# Altium footprint library WR-NPC2.PcbLib: 28 footprints (part 2 of 2)
Each footprint in its own frame and in the unit in brackets; x right, y up, seen from the top. Pads: shape width x height; smd on the part's side, far side on the other; paste and mask are expansions set on the pad; w line width, h text height; cw(c..) or ccw(c..) is an arc to the next point about the centre after c.
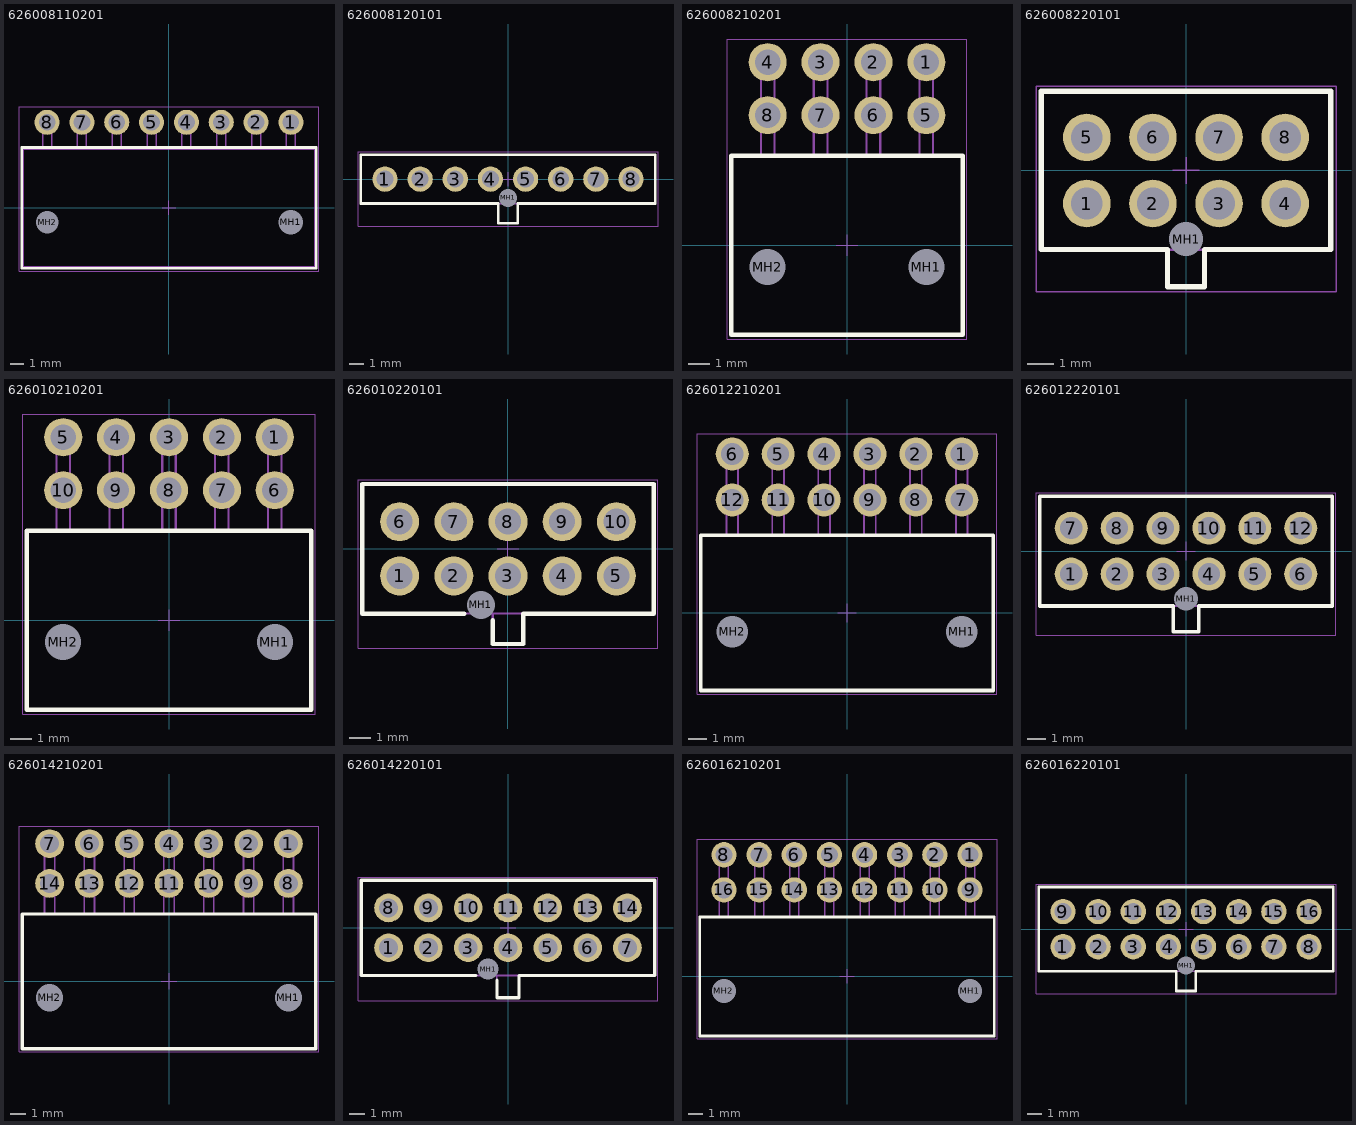
[diagram p1: the footprints below, top view; thin cyan lines are the x and y axes]

## 626008110201 [mm] "Single Row Male Header Right Angled, GW, THT, 08p"
height 3.78
pads (10):
  round 1.8 hole 1.2: 1(8.75,6.15) 2(6.25,6.15) 3(3.75,6.15) 4(1.25,6.15) 5(-1.25,6.15) 6(-3.75,6.15) 7(-6.25,6.15) 8(-8.75,6.15)
  round 1.55 hole 1.75 unplated: MH1(8.75,-1.03)
  round 1.4 hole 1.6 unplated: MH2(-8.75,-1.03)
Top Overlay:
  lines w0.2: -10.57,-4.33 -10.57,4.33 10.57,4.33 10.57,-4.33 -10.57,-4.33
Top Component Outline:
  lines w0.1: -9.07,4.23 -9.07,6.47 -8.43,6.47 -8.43,4.23 ; -6.57,4.23 -6.57,6.47 -5.93,6.47 -5.93,4.23 ; -4.07,4.23 -4.07,6.47 -3.43,6.47 -3.43,4.23 ; -1.57,4.23 -1.57,6.47 -0.93,6.47 -0.93,4.23 ; 0.93,4.23 0.93,6.47 1.57,6.47 1.57,4.23 ; 3.43,4.23 3.43,6.47 4.07,6.47 4.07,4.23 ; 5.93,4.23 5.93,6.47 6.57,6.47 6.57,4.23 ; 8.43,4.23 8.43,6.47 9.07,6.47 9.07,4.23 ; -10.47,-4.23 10.47,-4.23 10.47,4.23 -10.47,4.23 -10.47,-4.23
Top Courtyard:
  lines w0.05: -10.77,-4.53 10.77,-4.53 10.77,7.25 -10.77,7.25 -10.77,-4.53
Top Component Center:
  lines w0.05: -0.5,0 0.5,0 ; 0,-0.5 0,0.5
Top Designator (Mech19):
  text ".Designator" at -7.498,-0.5 h1.5
3D body "626008110201.stp": height 5.24, standoff -3.14, extent -10.47,-4.23 10.47,6.47

## 626008120101 [mm] "Single Row Male Header Vertical, GW, THT, 08p"
height 9.06
pads (9):
  round 1.8 hole 1.2: 1(-8.75,0) 2(-6.25,0) 3(-3.75,0) 4(-1.25,0) 5(1.25,0) 6(3.75,0) 7(6.25,0) 8(8.75,0)
  round 1.1 hole 1.3 unplated: MH1(0,-1.34)
Top Overlay:
  lines w0.2: -10.47,-1.74 -0.7,-1.74 -0.7,-3.14 0.7,-3.14 0.7,-1.74 10.47,-1.74 10.47,1.74 -10.47,1.74 -10.47,-1.74
Top Component Outline:
  lines w0.1: -0.7,-1.74 -0.7,-3.14 0.7,-3.14 0.7,-1.74 ; -10.47,-1.74 10.47,-1.74 10.47,1.74 -10.47,1.74 -10.47,-1.74
Top Courtyard:
  lines w0.05: -10.67,-3.34 -10.67,1.94 10.67,1.94 10.67,-3.34 -10.67,-3.34
Top Component Center:
  lines w0.05: -0.5,0 0.5,0 ; 0,-0.5 0,0.5
Top Designator (Mech19):
  text ".Designator" at -7.498,-0.5 h1.5
3D body "626008120101.stp": height 9.1, standoff -3.16, extent -10.47,-3.14 10.47,1.74

## 626008210201 [mm] "Dual Row Male Header Right Angled, GW, THT, 08p"
height 6.28
pads (10):
  round 1.8 hole 1.2: 1(3.75,8.65) 2(1.25,8.65) 3(-1.25,8.65) 4(-3.75,8.65) 5(3.75,6.15) 6(1.25,6.15) 7(-1.25,6.15) 8(-3.75,6.15)
  round 1.5 hole 1.7 unplated: MH1(3.75,-1.03) MH2(-3.75,-1.03)
Top Overlay:
  lines w0.2: -5.47,-4.23 5.47,-4.23 5.47,4.23 -5.47,4.23 -5.47,-4.23
Top Component Outline:
  lines w0.1: -4.07,4.23 -4.07,8.97 -3.43,8.97 -3.43,4.23 ; -4.07,6.47 -3.43,6.47 ; -1.57,4.23 -1.57,8.97 -0.93,8.97 -0.93,4.23 ; -1.57,6.47 -0.93,6.47 ; 0.93,4.23 0.93,8.97 1.57,8.97 1.57,4.23 ; 0.93,6.47 1.57,6.47 ; 3.43,4.23 3.43,8.97 4.07,8.97 4.07,4.23 ; 3.43,6.47 4.07,6.47 ; -5.47,-4.23 -5.47,4.23 5.47,4.23 5.47,-4.23 -5.47,-4.23
Top Courtyard:
  lines w0.05: -5.67,-4.43 -5.67,9.75 5.67,9.75 5.67,-4.43 -5.67,-4.43
Top Component Center:
  lines w0.05: -0.5,0 0.5,0 ; 0,-0.5 0,0.5
Top Designator (Mech19):
  text ".Designator" at -7.498,-0.5 h1.5
3D body "626008210201.stp": height 7.79, standoff -3.09, extent -5.47,-4.23 5.47,8.98

## 626008220101 [mm] "Dual Row Male Header Vertical, GW, THT, 08p"
height 9.06
pads (9):
  round 1.8 hole 1.2: 1(-3.75,-1.25) 2(-1.25,-1.25) 3(1.25,-1.25) 4(3.75,-1.25) 5(-3.75,1.25) 6(-1.25,1.25) 7(1.25,1.25) 8(3.75,1.25)
  round 1.1 hole 1.3 unplated: MH1(0,-2.59)
Top Overlay:
  lines w0.2: -5.47,-2.99 -5.47,2.99 5.47,2.99 5.47,-2.99 0.7,-2.99 0.7,-4.39 -0.7,-4.39 -0.7,-2.99 -5.47,-2.99
Top Component Outline:
  lines w0.1: -0.7,-2.99 -0.7,-4.39 0.7,-4.39 0.7,-2.99 ; -5.47,-2.99 -5.47,2.99 5.47,2.99 5.47,-2.99 -5.47,-2.99
Top Courtyard:
  lines w0.05: -5.67,-4.59 5.67,-4.59 5.67,3.19 -5.67,3.19 -5.67,-4.59
Top Component Center:
  lines w0.05: -0.5,0 0.5,0 ; 0,-0.5 0,0.5
Top Designator (Mech19):
  text ".Designator" at -7.498,-0.5 h1.5
3D body "626008220101.stp": height 9.11, standoff -3.19, extent -5.47,-4.39 5.47,2.99

## 626010210201 [mm] "Dual Row Male Header Right Angled, GW, THT, 10p"
height 6.28
pads (12):
  round 1.8 hole 1.2: 1(5,8.65) 2(2.5,8.65) 3(0,8.65) 4(-2.5,8.65) 5(-5,8.65) 6(5,6.15) 7(2.5,6.15) 8(0,6.15) 9(-2.5,6.15) 10(-5,6.15)
  round 1.5 hole 1.7 unplated: MH1(5,-1.03) MH2(-5,-1.03)
Top Overlay:
  lines w0.2: -6.72,-4.23 6.72,-4.23 6.72,4.23 -6.72,4.23 -6.72,-4.23
Top Component Outline:
  lines w0.1: -5.32,4.23 -5.32,8.97 -4.68,8.97 -4.68,4.23 ; -5.32,6.47 -4.68,6.47 ; -2.82,4.23 -2.82,8.97 -2.18,8.97 -2.18,4.23 ; -2.82,6.47 -2.18,6.47 ; -0.32,4.23 -0.32,8.97 0.32,8.97 0.32,4.23 ; -0.32,6.47 0.32,6.47 ; 2.18,4.23 2.18,8.97 2.82,8.97 2.82,4.23 ; 2.18,6.47 2.82,6.47 ; 4.68,4.23 4.68,8.97 5.32,8.97 5.32,4.23 ; 4.68,6.47 5.32,6.47 ; -6.72,-4.23 -6.72,4.23 6.72,4.23 6.72,-4.23 -6.72,-4.23
Top Courtyard:
  lines w0.05: -6.92,-4.43 -6.92,9.75 6.92,9.75 6.92,-4.43 -6.92,-4.43
Top Component Center:
  lines w0.05: -0.5,0 0.5,0 ; 0,-0.5 0,0.5
Top Designator (Mech19):
  text ".Designator" at -7.498,-0.5 h1.5
3D body "626010210201.stp": height 7.79, standoff -3.09, extent -6.72,-4.23 6.72,8.98

## 626010220101 [mm] "Dual Row Male Header Vertical, GW, THT, 10p"
height 9.06
pads (11):
  round 1.8 hole 1.2: 1(-5,-1.25) 2(-2.5,-1.25) 3(0,-1.25) 4(2.5,-1.25) 5(5,-1.25) 6(-5,1.25) 7(-2.5,1.25) 8(0,1.25) 9(2.5,1.25) 10(5,1.25)
  round 1.1 hole 1.3 unplated: MH1(-1.25,-2.59)
Top Overlay:
  lines w0.2: -2.02,-2.99 -6.72,-2.99 -6.72,2.99 6.72,2.99 6.72,-2.99 0.7,-2.99 0.7,-4.39 -0.7,-4.39 -0.7,-3.29
Top Component Outline:
  lines w0.1: -0.7,-2.99 -0.7,-4.39 0.7,-4.39 0.7,-2.99 ; -6.72,-2.99 6.72,-2.99 6.72,2.99 -6.72,2.99 -6.72,-2.99
Top Courtyard:
  lines w0.05: -6.92,-4.59 -6.92,3.19 6.92,3.19 6.92,-4.59 -6.92,-4.59
Top Component Center:
  lines w0.05: -0.5,0 0.5,0 ; 0,-0.5 0,0.5
Top Designator (Mech19):
  text ".Designator" at -7.498,-0.5 h1.5
3D body "626010220101.stp": height 9.11, standoff -3.15, extent -6.72,-4.39 6.72,2.99

## 626012210201 [mm] "Dual Row Male Header Right Angled, GW, THT, 12p"
height 6.28
pads (14):
  round 1.8 hole 1.2: 1(6.25,8.65) 2(3.75,8.65) 3(1.25,8.65) 4(-1.25,8.65) 5(-3.75,8.65) 6(-6.25,8.65) 7(6.25,6.15) 8(3.75,6.15) 9(1.25,6.15) 10(-1.25,6.15) 11(-3.75,6.15) 12(-6.25,6.15)
  round 1.5 hole 1.7 unplated: MH1(6.25,-1.03) MH2(-6.25,-1.03)
Top Overlay:
  lines w0.2: -7.97,-4.23 -7.97,4.23 7.97,4.23 7.97,-4.23 -7.97,-4.23
Top Component Outline:
  lines w0.1: -6.57,4.23 -6.57,8.97 -5.93,8.97 -5.93,4.23 ; -6.57,6.47 -5.93,6.47 ; -4.07,4.23 -4.07,8.97 -3.43,8.97 -3.43,4.23 ; -4.07,6.47 -3.43,6.47 ; -1.57,4.23 -1.57,8.97 -0.93,8.97 -0.93,4.23 ; -1.57,6.47 -0.93,6.47 ; 0.93,4.23 0.93,8.97 1.57,8.97 1.57,4.23 ; 0.93,6.47 1.57,6.47 ; 3.43,4.23 3.43,8.97 4.07,8.97 4.07,4.23 ; 3.43,6.47 4.07,6.47 ; 5.93,4.23 5.93,8.97 6.57,8.97 6.57,4.23 ; 5.93,6.47 6.57,6.47 ; -7.97,-4.23 7.97,-4.23 7.97,4.23 -7.97,4.23 -7.97,-4.23
Top Courtyard:
  lines w0.05: -8.17,-4.43 8.17,-4.43 8.17,9.75 -8.17,9.75 -8.17,-4.43
Top Component Center:
  lines w0.05: -0.5,0 0.5,0 ; 0,-0.5 0,0.5
Top Designator (Mech19):
  text ".Designator" at -7.498,-0.5 h1.5
3D body "626012210201.stp": height 7.79, standoff -3.09, extent -7.97,-4.23 7.97,8.98

## 626012220101 [mm] "Dual Row Male Header Vertical, GW, THT, 12p"
height 9.06
pads (13):
  round 1.8 hole 1.2: 1(-6.25,-1.25) 2(-3.75,-1.25) 3(-1.25,-1.25) 4(1.25,-1.25) 5(3.75,-1.25) 6(6.25,-1.25) 7(-6.25,1.25) 8(-3.75,1.25) 9(-1.25,1.25) 10(1.25,1.25) 11(3.75,1.25) 12(6.25,1.25)
  round 1.1 hole 1.3 unplated: MH1(0,-2.59)
Top Overlay:
  lines w0.2: -7.97,-2.99 -7.97,2.99 7.97,2.99 7.97,-2.99 0.7,-2.99 0.7,-4.39 -0.7,-4.39 -0.7,-2.99 -7.97,-2.99
Top Component Outline:
  lines w0.1: -0.7,-2.99 -0.7,-4.39 0.7,-4.39 0.7,-2.99 ; -7.97,-2.99 -7.97,2.99 7.97,2.99 7.97,-2.99 -7.97,-2.99
Top Courtyard:
  lines w0.05: -8.17,-4.59 8.17,-4.59 8.17,3.19 -8.17,3.19 -8.17,-4.59
Top Component Center:
  lines w0.05: -0.5,0 0.5,0 ; 0,-0.5 0,0.5
Top Designator (Mech19):
  text ".Designator" at -7.498,-0.5 h1.5
3D body "626012220101.stp": height 9.11, standoff -3.15, extent -7.97,-4.39 7.97,2.99

## 626014210201 [mm] "Dual Row Male Header Right Angled, GW, THT, 14p"
height 6.28
pads (16):
  round 1.8 hole 1.2: 1(7.5,8.65) 2(5,8.65) 3(2.5,8.65) 4(0,8.65) 5(-2.5,8.65) 6(-5,8.65) 7(-7.5,8.65) 8(7.5,6.15) 9(5,6.15) 10(2.5,6.15) 11(0,6.15) 12(-2.5,6.15) 13(-5,6.15) 14(-7.5,6.15)
  round 1.5 hole 1.7 unplated: MH1(7.5,-1.03) MH2(-7.5,-1.03)
Top Overlay:
  lines w0.2: -9.22,-4.23 9.22,-4.23 9.22,4.23 -9.22,4.23 -9.22,-4.23
Top Component Outline:
  lines w0.1: -7.82,4.23 -7.82,8.97 -7.18,8.97 -7.18,4.23 ; -7.82,6.47 -7.18,6.47 ; -5.32,4.23 -5.32,8.97 -4.68,8.97 -4.68,4.23 ; -5.32,6.47 -4.68,6.47 ; -2.82,4.23 -2.82,8.97 -2.18,8.97 -2.18,4.23 ; -2.82,6.47 -2.18,6.47 ; -0.32,4.23 -0.32,8.97 0.32,8.97 0.32,4.23 ; -0.32,6.47 0.32,6.47 ; 2.18,4.23 2.18,8.97 2.82,8.97 2.82,4.23 ; 2.18,6.47 2.82,6.47 ; 4.68,4.23 4.68,8.97 5.32,8.97 5.32,4.23 ; 4.68,6.47 5.32,6.47 ; 7.18,4.23 7.18,8.97 7.82,8.97 7.82,4.23 ; 7.18,6.47 7.82,6.47 ; -9.22,-4.23 -9.22,4.23 9.22,4.23 9.22,-4.23 -9.22,-4.23
Top Courtyard:
  lines w0.05: -9.42,-4.43 -9.42,9.75 9.42,9.75 9.42,-4.43 -9.42,-4.43
Top Component Center:
  lines w0.05: -0.5,0 0.5,0 ; 0,-0.5 0,0.5
Top Designator (Mech19):
  text ".Designator" at -7.498,-0.5 h1.5
3D body "626014210201.stp": height 7.79, standoff -3.09, extent -9.22,-4.23 9.22,8.98

## 626014220101 [mm] "Dual Row Male Header Vertical, GW, THT, 14p"
height 9.06
pads (15):
  round 1.8 hole 1.2: 1(-7.5,-1.25) 2(-5,-1.25) 3(-2.5,-1.25) 4(0,-1.25) 5(2.5,-1.25) 6(5,-1.25) 7(7.5,-1.25) 8(-7.5,1.25) 9(-5,1.25) 10(-2.5,1.25) 11(0,1.25) 12(2.5,1.25) 13(5,1.25) 14(7.5,1.25)
  round 1.1 hole 1.3 unplated: MH1(-1.25,-2.59)
Top Overlay:
  lines w0.2: -2.02,-2.99 -9.22,-2.99 -9.22,2.99 9.22,2.99 9.22,-2.99 0.7,-2.99 0.7,-4.39 -0.7,-4.39 -0.7,-3.29
Top Component Outline:
  lines w0.1: -0.7,-2.99 -0.7,-4.39 0.7,-4.39 0.7,-2.99 ; -9.22,-2.99 9.22,-2.99 9.22,2.99 -9.22,2.99 -9.22,-2.99
Top Courtyard:
  lines w0.05: -9.42,-4.59 -9.42,3.19 9.42,3.19 9.42,-4.59 -9.42,-4.59
Top Component Center:
  lines w0.05: -0.5,0 0.5,0 ; 0,-0.5 0,0.5
Top Designator (Mech19):
  text ".Designator" at -7.498,-0.5 h1.5
3D body "626014220101.stp": height 9.11, standoff -3.15, extent -9.22,-4.39 9.22,2.99

## 626016210201 [mm] "Dual Row Male Header Right Angled, GW, THT, 16p"
height 6.28
pads (18):
  round 1.8 hole 1.2: 1(8.75,8.65) 2(6.25,8.65) 3(3.75,8.65) 4(1.25,8.65) 5(-1.25,8.65) 6(-3.75,8.65) 7(-6.25,8.65) 8(-8.75,8.65) 9(8.75,6.15) 10(6.25,6.15) 11(3.75,6.15) 12(1.25,6.15) 13(-1.25,6.15) 14(-3.75,6.15) 15(-6.25,6.15) 16(-8.75,6.15)
  round 1.5 hole 1.7 unplated: MH1(8.75,-1.03) MH2(-8.75,-1.03)
Top Overlay:
  lines w0.2: -10.47,-4.23 10.47,-4.23 10.47,4.23 -10.47,4.23 -10.47,-4.23
Top Component Outline:
  lines w0.1: -9.07,4.23 -9.07,8.97 -8.43,8.97 -8.43,4.23 ; -9.07,6.47 -8.43,6.47 ; -6.57,4.23 -6.57,8.97 -5.93,8.97 -5.93,4.23 ; -6.57,6.47 -5.93,6.47 ; -4.07,4.23 -4.07,8.97 -3.43,8.97 -3.43,4.23 ; -4.07,6.47 -3.43,6.47 ; -1.57,4.23 -1.57,8.97 -0.93,8.97 -0.93,4.23 ; -1.57,6.47 -0.93,6.47 ; 0.93,4.23 0.93,8.97 1.57,8.97 1.57,4.23 ; 0.93,6.47 1.57,6.47 ; 3.43,4.23 3.43,8.97 4.07,8.97 4.07,4.23 ; 3.43,6.47 4.07,6.47 ; 5.93,4.23 5.93,8.97 6.57,8.97 6.57,4.23 ; 5.93,6.47 6.57,6.47 ; 8.43,4.23 8.43,8.97 9.07,8.97 9.07,4.23 ; 8.43,6.47 9.07,6.47 ; -10.47,-4.23 -10.47,4.23 10.47,4.23 10.47,-4.23 -10.47,-4.23
Top Courtyard:
  lines w0.05: -10.67,-4.43 -10.67,9.75 10.67,9.75 10.67,-4.43 -10.67,-4.43
Top Component Center:
  lines w0.05: -0.5,0 0.5,0 ; 0,-0.5 0,0.5
Top Designator (Mech19):
  text ".Designator" at -7.498,-0.5 h1.5
3D body "626016210201.stp": height 7.79, standoff -3.09, extent -10.47,-4.23 10.47,8.98

## 626016220101 [mm] "Dual Row Male Header Vertical, GW, THT, 16p"
height 9.06
pads (17):
  round 1.8 hole 1.2: 1(-8.75,-1.25) 2(-6.25,-1.25) 3(-3.75,-1.25) 4(-1.25,-1.25) 5(1.25,-1.25) 6(3.75,-1.25) 7(6.25,-1.25) 8(8.75,-1.25) 9(-8.75,1.25) 10(-6.25,1.25) 11(-3.75,1.25) 12(-1.25,1.25) 13(1.25,1.25) 14(3.75,1.25) 15(6.25,1.25) 16(8.75,1.25)
  round 1.1 hole 1.3 unplated: MH1(0,-2.59)
Top Overlay:
  lines w0.2: -10.47,-2.99 -10.47,2.99 10.47,2.99 10.47,-2.99 0.7,-2.99 0.7,-4.39 -0.7,-4.39 -0.7,-2.99 -10.47,-2.99
Top Component Outline:
  lines w0.1: -0.7,-2.99 -0.7,-4.39 0.7,-4.39 0.7,-2.99 ; -10.47,-2.99 -10.47,2.99 10.47,2.99 10.47,-2.99 -10.47,-2.99
Top Courtyard:
  lines w0.05: -10.67,-4.59 10.67,-4.59 10.67,3.19 -10.67,3.19 -10.67,-4.59
Top Component Center:
  lines w0.05: -0.5,0 0.5,0 ; 0,-0.5 0,0.5
Top Designator (Mech19):
  text ".Designator" at -7.498,-0.5 h1.5
3D body "626016220101.stp": height 9.11, standoff -3.15, extent -10.47,-4.39 10.47,2.99